# EAGLE library part LM46001 (library Auto Driver Shield)
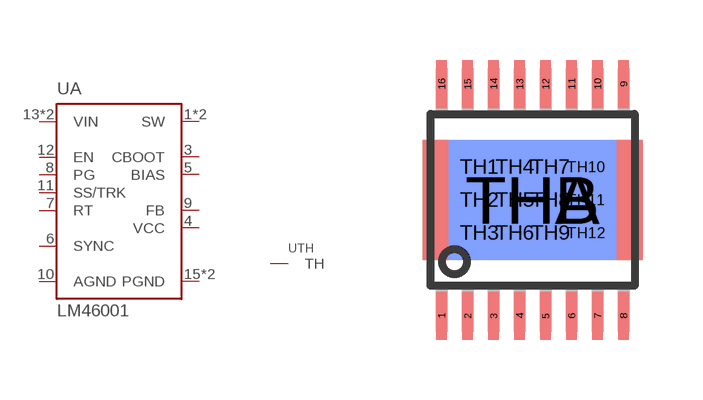
[diagram p0: symbol with the pads of HTSSOP16PWP; footprint HTSSOP16PWP]

Designator prefix U; gates A=LM46001 TH=THERMAL

## LM46001  [HTSSOP16PWP]
1  A:SW  pas
2  A:SW  pas
3  A:CBOOT  pas
4  A:VCC  out
5  A:BIAS  in
6  A:SYNC  in
7  A:RT  in
8  A:PG  in
9  A:FB  in
10  A:AGND  pwr
11  A:SS/TRK  in
12  A:EN  in
13  A:VIN  in
14  A:VIN  in
15  A:PGND  pwr
16  A:PGND  pwr
TH1  TH:TH  pas
TH2  TH:TH  pas
TH3  TH:TH  pas
TH4  TH:TH  pas
TH5  TH:TH  pas
TH6  TH:TH  pas
TH7  TH:TH  pas
TH8  TH:TH  pas
TH9  TH:TH  pas
TH10  TH:TH  pas
TH11  TH:TH  pas
TH12  TH:TH  pas
THA  TH:TH  pas
THB  TH:TH  pas

## Footprint HTSSOP16PWP (pad centres in mm)
smd 0.27 x 1.2: 1 -2.275,-2.9; 2 -1.625,-2.9; 3 -0.975,-2.9; 4 -0.325,-2.9; 5 0.325,-2.9; 6 0.975,-2.9; 7 1.625,-2.9; 8 2.275,-2.9; 9 2.275,2.9; 10 1.625,2.9; 11 0.975,2.9; 12 0.325,2.9; 13 -0.325,2.9; 14 -0.975,2.9; 15 -1.625,2.9; 16 -2.275,2.9
drill 0.33 pad 0.61: TH1 -1.333,0.826; TH2 -1.333,0; TH3 -1.333,-0.826; TH4 -0.445,0.826; TH5 -0.445,0; TH6 -0.445,-0.826; TH7 0.445,0.826; TH8 0.445,0; TH9 0.445,-0.826; TH10 1.333,0.826; TH11 1.333,0; TH12 1.333,-0.826
smd 5.5 x 3: THA 0,0
smd 4.18 x 3 bottom: THB 0,0